# Altium schematic symbol library ADCMP604.SchLib: 1 symbol
Pins are listed as number, name and electrical type; pins without a type are passive.

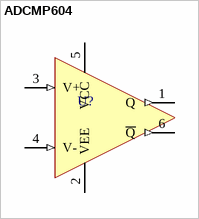
[diagram p0: symbol ADCMP604]

## ADCMP604
designator U?  (value not drawn)
pins: 1 Q (out), 2 VEE (power), 3 V+ (in), 4 V- (in), 5 VCC (power), 6 ~{Q} (out)